# EAGLE library part MCONPAD (library ConV4)
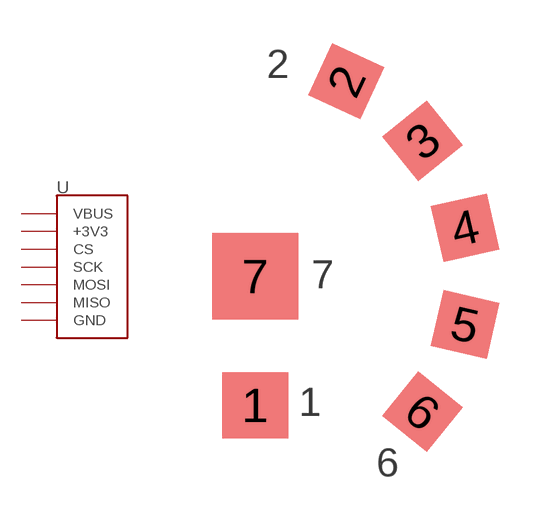
[diagram p5: symbol with the pads of CON7_PAD; footprint CON7_PAD]

Designator prefix -

## MCONPAD  [CON7_PAD]
1  VBUS  pwr
2  +3V3  pwr
3  CS
4  SCK
5  MOSI
6  MISO
7  GND  pwr

## Footprint CON7_PAD (pad centres in mm)
smd 2.3 x 2.3: 1 0,-4.5
smd 2 x 2 rotated 65: 2 3.17,6.797
smd 2 x 2 rotated 39: 3 5.829,4.72
smd 2 x 2 rotated 13: 4 7.308,1.687
smd 2 x 2 rotated 347: 5 7.308,-1.687
smd 2 x 2 rotated 321: 6 5.829,-4.72
smd 3 x 3: 7 0,0